# EAGLE library part MC14016BCPG (library on-semiconductor-01)
Quad Multiplexer
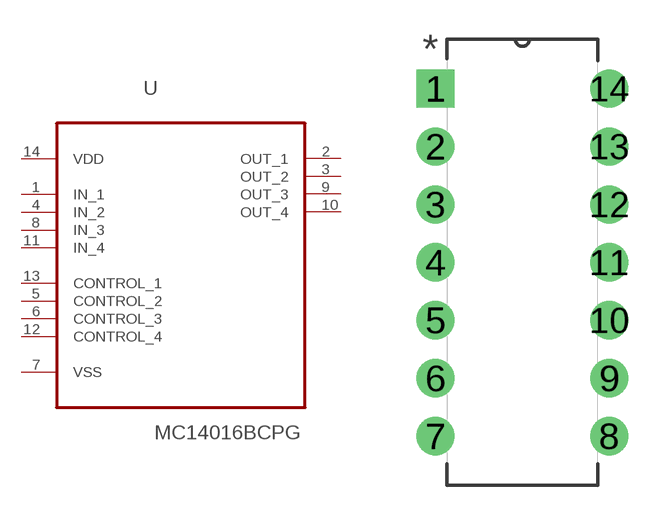
[diagram p206: symbol with the pads of DIP254P762X469-14; footprint DIP254P762X469-14]

Designator prefix U

## MC14016BCPG (MPN: MC14016BCPG; OC_FARNELL: 9665706; OC_NEWARK: 45J1024; PACKAGE: PDIP-14; SUPPLIER: On Semiconductor)  [DIP254P762X469-14]
1  IN_1  in
2  OUT_1  out
3  OUT_2  out
4  IN_2  in
5  CONTROL_2  in
6  CONTROL_3  in
7  VSS  pwr
8  IN_3  in
9  OUT_3  out
10  OUT_4  out
11  IN_4  in
12  CONTROL_4  in
13  CONTROL_1  in
14  VDD  pwr

## Footprint DIP254P762X469-14 (pad centres in mm)
drill 1.118 square: 1 -7.62,15.24
drill 1.118: 2 -7.62,12.7; 3 -7.62,10.16; 4 -7.62,7.62; 5 -7.62,5.08; 6 -7.62,2.54; 7 -7.62,0; 8 0,0; 9 0,2.54; 10 0,5.08; 11 0,7.62; 12 0,10.16; 13 0,12.7; 14 0,15.24